# Altium footprint library SMD.PcbLib: 5 footprints
Each footprint in its own frame and in the unit in brackets; x right, y up, seen from the top. Pads: shape width x height; smd on the part's side, far side on the other; paste and mask are expansions set on the pad; w line width, h text height; cw(c..) or ccw(c..) is an arc to the next point about the centre after c.
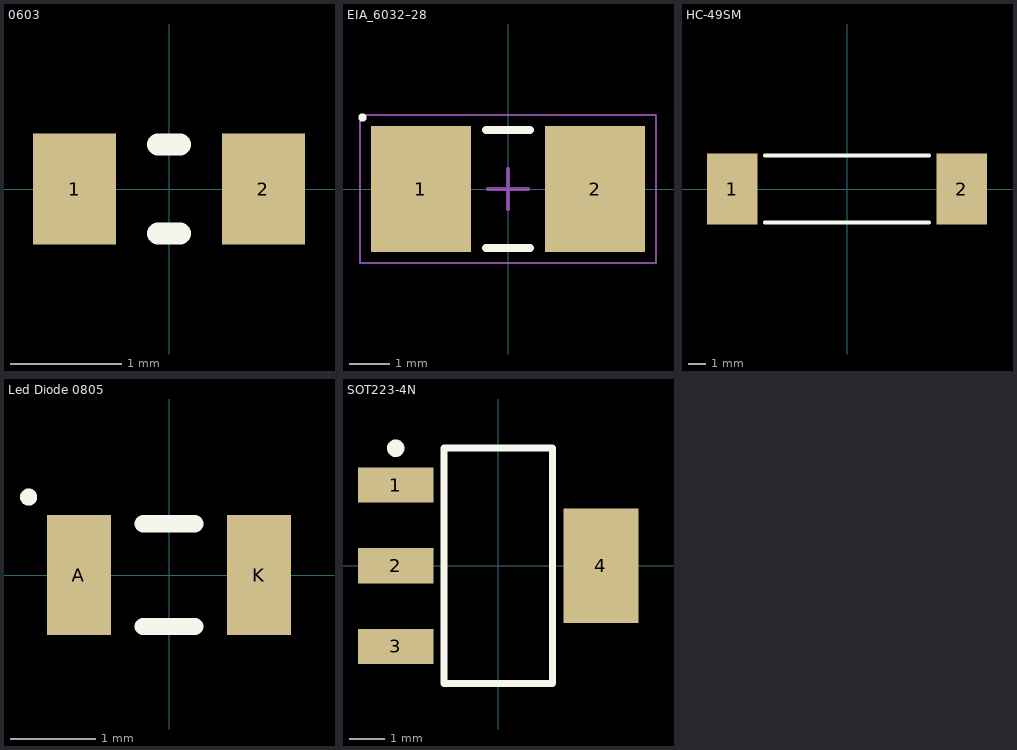
[diagram p0: the footprints below, top view; thin cyan lines are the x and y axes]

## 0603 [mm] "Chip Resistor, 2-Leads, Body 1,63x0,93mm, IPC Medium Density"
height 0.45
pads (2):
  rect 0.75x1 smd paste-2539.97: 1(-0.85,0) 2(0.85,0)
Top Overlay:
  lines w0.2: -0.1,-0.4 0.1,-0.4 ; -0.1,0.4 0.1,0.4

## EIA_6032–28 [mm] "Chip Capacitor, 2-Leads, Body 6,00x3,00mm, IPC Medium Density"
height 3
pads (2):
  rect 2.5x3.15 smd: 1(-2.175,0) 2(2.175,0)
Top Overlay:
  circle w0.1: c-3.637,1.787 r0.05
  lines w0.2: -0.55,-1.475 0.55,-1.475 ; -0.55,1.475 0.55,1.475
Mechanical 13:
  lines w0.1: -3,-1.5 -3,1.5 ; 3,-1.5 3,1.5
Mechanical 15:
  lines w0.05: -3.7,-1.85 -3.7,1.85 3.7,1.85 3.7,-1.85 -3.7,-1.85
  lines w0.1: -0.5,0 0.5,0 ; 0,-0.5 0,0.5

## HC-49SM [mm] "Chip BQ"
height 5
pads (2):
  rect 2.85x3.95 smd: 1(-6.425,0) 2(6.425,0)
Top Overlay:
  lines w0.2: -4.6,-1.875 4.6,-1.875 ; -4.6,1.875 4.6,1.875

## Led Diode 0805 [mm] "Chip Diode, 2-Leads, Body 2,05x1,25mm, IPC Medium Density"
height 0.45
pads (2):
  rect 0.75x1.4 smd: A(-1.05,0) K(1.05,0)
Top Overlay:
  circle w0.1: c-1.637,0.912 r0.05
  lines w0.2: -0.3,-0.6 0.3,-0.6 ; -0.3,0.6 0.3,0.6

## SOT223-4N [mm] "SOT223, 4-Leads, Body 6,50x7,00mm (avg), Pitch 2,30mm, IPC Medium Density"
height 1.8
pads (4):
  rect 2.15x1 smd: 1(-2.925,2.3) 2(-2.925,0) 3(-2.925,-2.3)
  rect 2.15x3.25 smd: 4(2.925,0)
Top Overlay:
  circle w0.25: c-2.925,3.35 r0.125
  lines w0.2: -1.55,-3.35 -1.55,3.35 1.55,3.35 1.55,-3.35 -1.55,-3.35